# Altium footprint library connectLibPcb.PcbLib: 20 footprints (part 1 of 2)
Each footprint in its own frame and in the unit in brackets; x right, y up, seen from the top. Pads: shape width x height; smd on the part's side, far side on the other; paste and mask are expansions set on the pad; w line width, h text height; cw(c..) or ccw(c..) is an arc to the next point about the centre after c.
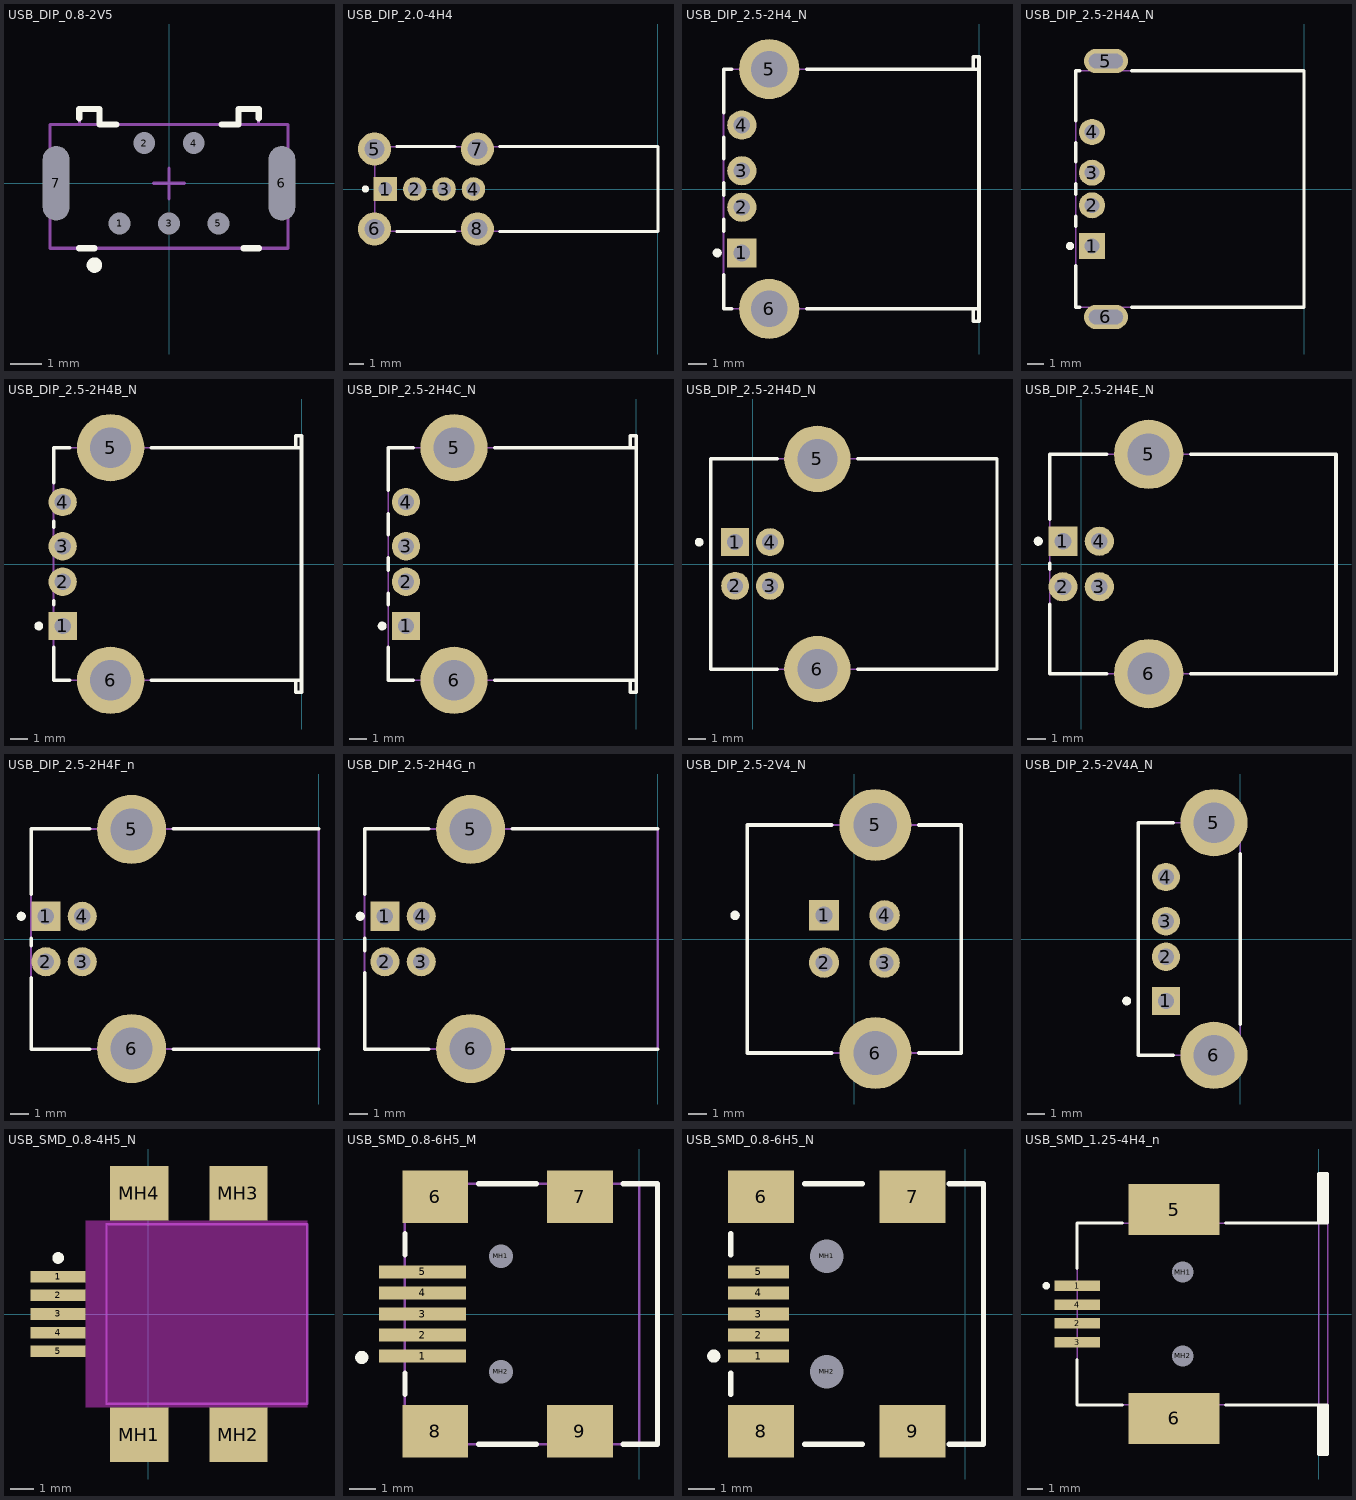
[diagram p0: the footprints below, top view; thin cyan lines are the x and y axes]

## USB_DIP_0.8-2V5 [mm] "Connector; USB Mini-B, Type 2, Thru-Hole; 5 Position; Vertical"
height 7.7
pads (7):
  round 0.4 / inner round 0.4 / far side oval 1.1x1.7 hole 0.7: 1(-1.6,-1.3) 2(-0.8,1.3) 3(0,-1.3) 4(0.8,1.3) 5(1.6,-1.3)
  oval 0.55x2.1 / inner oval 0.55x2.1 / far side oval 1.6x3.9 hole 0.85 slot 2.4 at 90 deg: 6(3.65,0) 7(-3.65,0)
Top Overlay:
  circle w0.25: c-2.41,-2.645 r0.125
  lines w0.2: -2.91,-2.1 -2.41,-2.1 ; -2.9,2.1 -2.9,2.4 -2.25,2.4 -2.25,1.9 -1.7,1.9 ; 1.7,1.9 2.25,1.9 2.25,2.4 2.9,2.4 2.9,2.1 ; 2.41,-2.1 2.91,-2.1
Mechanical 13:
  lines w0.1: -2.9,1.9 -2.9,2.4 -2.25,2.4 -2.25,1.9 ; 2.25,1.9 2.25,2.4 2.9,2.4 2.9,1.9 ; -3.85,-2.1 3.85,-2.1 3.85,1.9 -3.85,1.9 -3.85,-2.1
Mechanical 15:
  lines w0.1: -0.5,0 0.5,0 ; 0,-0.5 0,0.5
3D body: height 7.7, standoff 0, extent 2.251,1.901 2.899,2.399
3D body: height 7.7, standoff 0, extent -2.899,1.901 -2.251,2.399
3D body: height 7.7, standoff 0, extent -3.849,-2.099 3.849,1.899

## USB_DIP_2.0-4H4 [mm] "Connector; USB1.1, Type A, Thru-Hole; 4 Position; Right Angle"
height 13.83
pads (8):
  rect 1.6x1.6 hole 0.92: 1(-18.56,0)
  round 1.6 hole 0.92: 2(-16.56,0) 3(-14.56,0) 4(-12.56,0)
  round 2.25 hole 1.35: 5(-19.29,2.72) 6(-19.29,-2.72) 7(-12.29,2.72) 8(-12.29,-2.72)
Top Overlay:
  circle w0.25: c-19.91,0 r0.125
  lines w0.2: -17.78,-2.88 -13.8,-2.88 ; -17.78,2.88 -13.8,2.88 ; -10.78,-2.88 0,-2.88 0,2.88 -10.78,2.88
Mechanical 13:
  lines w0.1: -19.29,-2.88 -19.29,2.88 0,2.88 0,-2.88 -19.29,-2.88
3D body: height 13.83, standoff 0, extent -19.289,-2.879 -0.001,2.879

## USB_DIP_2.5-2H4_N [mm] "Connector; USB1.1, Series A, Reverse Type, Thru-Hole; 4 Position; Right Angle"
height 6.5
pads (6):
  rect 1.6x1.6 hole 0.92: 1(-13,-3.5)
  round 1.6 hole 0.92: 2(-13,-1) 3(-13,1) 4(-13,3.5)
  round 3.3 hole 2: 5(-11.5,6.57) 6(-11.5,-6.57)
Top Overlay:
  circle w0.25: c-14.35,-3.5 r0.125
  lines w0.2: -14,-4.7 -14,-6.565 -13.55,-6.565 ; -14,-2.3 -14,-1.67 ; -14,-0.33 -14,0.33 ; -14,1.67 -14,2.83 ; -14,4.17 -14,6.565 -13.55,6.565 ; -9.45,-6.565 0,-6.565 ; -9.45,6.565 0,6.565 ; -0.32,-6.565 -0.32,-7.25 0,-7.25 0,7.25 -0.32,7.25 -0.32,6.565
Mechanical 1:
  lines w0.1: 0,-7.25 0,7.25
  text "PCB Edge" at -0.336,-6.303 h0.25
Mechanical 13:
  lines w0.1: -14,-6.565 -0.32,-6.565 -0.32,-7.25 0,-7.25 0,7.25 -0.32,7.25 -0.32,6.565 -14,6.565 -14,-6.565
3D body: height 6.5, standoff 0, extent -13.999,-7.249 -0.001,7.249

## USB_DIP_2.5-2H4A_N [mm] "Connector; USB1.1, Series A, Reverse Type, Thru-Hole; 4 Position; Right Angle"
height 6.5
pads (6):
  rect 1.6x1.6 hole 0.92: 1(-13,-3.5)
  round 1.6 hole 0.92: 2(-13,-1) 3(-13,1) 4(-13,3.5)
  oval 2.7x1.5 hole 0.9 slot 2.1 at 0 deg: 5(-12.15,7.85) 6(-12.15,-7.85)
Top Overlay:
  circle w0.25: c-14.35,-3.5 r0.125
  lines w0.2: -14,-4.7 -14,-7.25 -13.74,-7.25 ; -14,-2.3 -14,-1.67 ; -14,-0.33 -14,0.33 ; -14,1.67 -14,2.83 ; -14,4.17 -14,7.25 -13.74,7.25 ; -10.56,-7.25 0,-7.25 0,7.25 -10.56,7.25
Mechanical 1:
  lines w0.1: 0,-7.25 0,7.25
  text "PCB Edge" at -0.324,-6.966 h0.25
Mechanical 13:
  lines w0.1: -14,-7.25 0,-7.25 0,7.25 -14,7.25 -14,-7.25
3D body: height 6.5, standoff 0, extent -14,-7.25 0,7.25

## USB_DIP_2.5-2H4B_N [mm] "Connector; USB1.1, Type A, Thru-Hole; 4 Position; Right Angle"
height 7.01
pads (6):
  rect 1.6x1.6 hole 0.92: 1(-13.49,-3.5)
  round 1.6 hole 0.92: 2(-13.49,-1) 3(-13.49,1) 4(-13.49,3.5)
  round 3.8 hole 2.3: 5(-10.78,6.57) 6(-10.78,-6.57)
Top Overlay:
  circle w0.25: c-14.84,-3.5 r0.125
  lines w0.2: -14,-4.7 -14,-6.565 -13.08,-6.565 ; -14,-2.3 -14,-2.09 ; -14,2.09 -14,2.41 ; -14,4.59 -14,6.565 -13.08,6.565 ; -8.48,-6.565 0,-6.565 ; -8.48,6.565 0,6.565 ; -0.32,-6.565 -0.32,-7.25 0,-7.25 0,-6.565 ; -0.32,6.565 -0.32,7.25 0,7.25 0,6.565 ; 0,-6.565 0,6.565
Mechanical 13:
  lines w0.1: -14,-6.565 -14,6.565 -0.32,6.565 -0.32,7.25 0,7.25 0,-7.25 -0.32,-7.25 -0.32,-6.565 -14,-6.565
3D body: height 7.01, standoff 0, extent -13.999,-7.249 -0.001,7.249

## USB_DIP_2.5-2H4C_N [mm] "Connector; USB1.1, Type A, Thru-Hole; 4 Position; Right Angle"
height 7.01
pads (6):
  rect 1.6x1.6 hole 0.92: 1(-12.99,-3.5)
  round 1.6 hole 0.92: 2(-12.99,-1) 3(-12.99,1) 4(-12.99,3.5)
  round 3.8 hole 2.3: 5(-10.28,6.57) 6(-10.28,-6.57)
Top Overlay:
  circle w0.25: c-14.34,-3.5 r0.125
  lines w0.2: -14,-4.7 -14,-6.565 -12.58,-6.565 ; -14,-2.3 -14,-1.66 ; -14,-0.34 -14,0.34 ; -14,1.66 -14,2.84 ; -14,4.16 -14,6.565 -12.58,6.565 ; -7.98,-6.565 0,-6.565 ; -7.98,6.565 0,6.565 ; -0.32,-6.565 -0.32,-7.25 0,-7.25 0,-6.565 ; -0.32,6.565 -0.32,7.25 0,7.25 0,6.565 ; 0,-6.565 0,6.565
Mechanical 13:
  lines w0.1: -14,-6.565 -0.32,-6.565 -0.32,-7.25 0,-7.25 0,7.25 -0.32,7.25 -0.32,6.565 -14,6.565 -14,-6.565
3D body: height 7.01, standoff 0, extent -13.999,-7.249 -0.001,7.249

## USB_DIP_2.5-2H4D_N [mm] "Connector; USB1.1, Type B, Thru-Hole; 4 Position; Right Angle"
height 11.1
pads (6):
  rect 1.6x1.6 hole 0.92: 1(-1,1.25)
  round 1.6 hole 0.92: 2(-1,-1.25) 3(1,-1.25) 4(1,1.25)
  round 3.8 hole 2.3: 5(3.71,6.02) 6(3.71,-6.02)
Top Overlay:
  circle w0.25: c-3.06,1.25 r0.125
  lines w0.2: 1.41,-6.02 -2.41,-6.02 -2.41,6.02 1.41,6.02 ; 6.01,-6.02 13.99,-6.02 13.99,6.02 6.01,6.02
Mechanical 13:
  lines w0.1: -2.41,-6.02 13.99,-6.02 13.99,6.02 -2.41,6.02 -2.41,-6.02
3D body: height 11.1, standoff 0, extent -2.41,-6.02 13.99,6.02

## USB_DIP_2.5-2H4E_N [mm] "Connector; USB1.1, Type B, Thru-Hole; 4 Position; Right Angle"
height 11.5
pads (6):
  rect 1.6x1.6 hole 0.92: 1(-1,1.25)
  round 1.6 hole 0.92: 2(-1,-1.25) 3(1,-1.25) 4(1,1.25)
  round 3.8 hole 2.3: 5(3.71,6.02) 6(3.71,-6.02)
Top Overlay:
  circle w0.25: c-2.35,1.25 r0.125
  lines w0.2: -1.72,-2.21 -1.72,-6.02 1.41,-6.02 ; -1.72,-0.29 -1.72,0.05 ; -1.72,2.45 -1.72,6.02 1.41,6.02 ; 6.01,-6.02 13.99,-6.02 13.99,6.02 6.01,6.02
Mechanical 13:
  lines w0.1: -1.72,-6.02 13.99,-6.02 13.99,6.02 -1.72,6.02 -1.72,-6.02
3D body: height 11.5, standoff 0, extent -1.72,-6.02 13.99,6.02

## USB_DIP_2.5-2H4F_n [mm] "Connector; USB1.1, Type B, Thru-Hole; 4 Position; Right Angle"
height 10.95
pads (6):
  rect 1.6x1.6 hole 0.92: 1(-15.01,1.25)
  round 1.6 hole 0.92: 2(-15.01,-1.25) 3(-13.01,-1.25) 4(-13.01,1.25)
  round 3.8 hole 2.3: 5(-10.3,6.02) 6(-10.3,-6.02)
Top Overlay:
  circle w0.25: c-16.36,1.25 r0.125
  lines w0.2: -15.82,-2.14 -15.82,-6.05 -12.6,-6.05 ; -15.82,-0.36 -15.82,0.05 ; -15.82,2.45 -15.82,6.05 -12.6,6.05 ; -8,-6.05 -0.02,-6.05 ; -8,6.05 -0.02,6.05
Mechanical 1:
  lines w0.1: 0,-6.05 0,6.05
  text "PCB Edge" at -0.325,-5.651 h0.25
Mechanical 13:
  lines w0.1: -15.82,-6.05 -15.82,6.05 -0.02,6.05 -0.02,-6.05 -15.82,-6.05
3D body: height 10.95, standoff 0, extent -15.82,-6.05 -0.02,6.05

## USB_DIP_2.5-2H4G_n [mm] "Connector; USB1.1, Type B, Thru-Hole; 4 Position; Right Angle"
height 10.95
pads (6):
  rect 1.6x1.6 hole 0.92: 1(-15.01,1.25)
  round 1.6 hole 0.92: 2(-15.01,-1.25) 3(-13.01,-1.25) 4(-13.01,1.25)
  round 3.8 hole 2.3: 5(-10.3,6.02) 6(-10.3,-6.02)
Top Overlay:
  circle w0.25: c-16.36,1.25 r0.125
  lines w0.2: -16.12,-1.85 -16.12,-6.05 -12.6,-6.05 ; -16.12,-0.65 -16.12,0.05 ; -16.12,2.45 -16.12,6.05 -12.6,6.05 ; -8,-6.05 -0.02,-6.05 ; -8,6.05 -0.02,6.05
Mechanical 1:
  lines w0.1: 0,-6.05 0,6.05
  text "PCB Edge" at -0.325,-5.651 h0.25
Mechanical 13:
  lines w0.1: -16.12,-6.05 -16.12,6.05 -0.02,6.05 -0.02,-6.05 -16.12,-6.05
3D body: height 10.95, standoff 0, extent -16.12,-6.05 -0.02,6.05

## USB_DIP_2.5-2V4_N [mm] "Connector; USB1.1, Type B, Thru-Hole; 4 Position; Vertical"
height 16
pads (6):
  rect 1.6x1.6 hole 0.92: 1(-1.6,1.25)
  round 1.6 hole 0.92: 2(-1.6,-1.25) 3(1.6,-1.25) 4(1.6,1.25)
  round 3.8 hole 2.3: 5(1.11,6.02) 6(1.11,-6.02)
Top Overlay:
  circle w0.25: c-6.3,1.25 r0.125
  lines w0.2: -1.19,-6.02 -5.65,-6.02 -5.65,6.02 -1.19,6.02 ; 3.41,-6.02 5.65,-6.02 5.65,6.02 3.41,6.02
Mechanical 13:
  lines w0.1: -5.65,-6.02 -5.65,6.02 5.65,6.02 5.65,-6.02 -5.65,-6.02
3D body: height 16, standoff 0, extent -5.65,-6.02 5.65,6.02

## USB_DIP_2.5-2V4A_N [mm] "Connector; USB1.1, Type A, Thru-Hole; 4 Position; Vertical"
height 15
pads (6):
  rect 1.6x1.6 hole 0.92: 1(-4.19,-3.5)
  round 1.6 hole 0.92: 2(-4.19,-1) 3(-4.19,1) 4(-4.19,3.5)
  round 3.8 hole 2.3: 5(-1.48,6.57) 6(-1.48,-6.57)
Top Overlay:
  circle w0.25: c-6.41,-3.5 r0.125
  lines w0.2: -3.78,-6.57 -5.76,-6.57 -5.76,6.57 -3.78,6.57 ; 0,-4.81 0,4.81
Mechanical 13:
  lines w0.1: -5.76,-6.57 0,-6.57 0,6.57 -5.76,6.57 -5.76,-6.57
3D body: height 15, standoff 0, extent -5.76,-6.57 0,6.57

## USB_SMD_0.8-4H5_N [mm] "Connector; USB Mini-B, Sinking Type, SM; 5 Position; Right Angle"
height 0.65
pads (9):
  rect 2.35x0.5 smd: 1(-3.862,1.6) 2(-3.862,0.8) 3(-3.862,0) 4(-3.862,-0.8) 5(-3.862,-1.6)
  rect 2.5x2.35 smd: MH1(-0.387,-5.175) MH2(3.863,-5.175) MH3(3.863,5.175) MH4(-0.387,5.175)
Top Overlay:
  circle w0.25: c-3.862,2.4 r0.125
Keep-Out Layer:
  rectangle: -2.687,-4 6.813,4
Mechanical 13:
  lines w0.1: -1.788,-3.85 -1.788,3.85 6.813,3.85 6.813,-3.85 -1.788,-3.85
3D body: height 0.65, standoff -3.25, extent -1.798,-3.838 6.801,3.861

## USB_SMD_0.8-6H5_M [mm] "Connector; USB2.0, Type B, SM; 5 Position; Right Angle"
height 3.9
pads (11):
  rect 3.3x0.5 smd: 1(-8.23,-1.6) 2(-8.23,-0.8) 3(-8.23,0) 4(-8.23,0.8) 5(-8.23,1.6)
  rect 2.5x2 smd: 6(-7.75,4.45) 7(-2.25,4.45) 8(-7.75,-4.45) 9(-2.25,-4.45)
  round 0.6 hole 0.9 unplated: MH1(-5.25,2.2) MH2(-5.25,-2.2)
Top Overlay:
  circle w0.25: c-10.539,-1.651 r0.125
  lines w0.2: -8.9,-3.05 -8.9,-2.25 ; -8.9,2.25 -8.9,3.05 ; -6.1,-4.95 -3.9,-4.95 ; -6.1,4.95 -3.9,4.95 ; -0.6,-4.95 0.7,-4.95 0.7,4.95 -0.6,4.95
Mechanical 1:
  lines w0.1: 0,-4.95 0,4.95
  text "PCB Edge" at 0.432,-4.036 h0.25
Mechanical 13:
  lines w0.1: -8.9,-4.95 0.7,-4.95 0.7,4.95 -8.9,4.95 -8.9,-4.95
3D body: height 3.9, standoff 0, extent -8.9,-4.95 0.7,4.95

## USB_SMD_0.8-6H5_N [mm]
pads (11):
  rect 2.3x0.5 smd: 1(-7.85,-1.6) 2(-7.85,-0.8) 3(-7.85,0) 4(-7.85,0.8) 5(-7.85,1.6)
  rect 2.5x2 smd: 6(-7.75,4.45) 7(-1.996,4.45) 8(-7.75,-4.45) 9(-1.996,-4.45)
  round 0.6 hole 1.27 unplated: MH1(-5.25,2.2) MH2(-5.25,-2.2)
Top Overlay:
  circle w0.25: c-9.55,-1.6 r0.125
  lines w0.2: -8.9,-3.05 -8.9,-2.25 ; -8.9,2.25 -8.9,3.05 ; -6.1,-4.95 -3.9,-4.95 ; -6.1,4.95 -3.9,4.95 ; -0.6,-4.95 0.7,-4.95 0.7,4.95 -0.6,4.95

## USB_SMD_1.25-4H4_n [mm] "Connector; USB1.1, Type B, SM; 4 Position; Right Angle"
height 11
pads (8):
  rect 3x0.7 smd: 1(-16,1.875) 2(-16,-0.625) 3(-16,-1.875) 4(-16,0.625)
  rect 6.04x3.4 smd: 5(-9.58,6.92) 6(-9.58,-6.92)
  round 1.1 hole 1.4 unplated: MH1(-9,2.775) MH2(-9,-2.775)
Top Overlay:
  circle w0.25: c-18.05,1.875 r0.125
  rectangle: 0,-9.32 0.6,-6.02
  rectangle: 0,6.02 0.6,9.32
  lines w0.2: -16,-3 -16,-6.02 -13,-6.02 ; -16,3 -16,6.02 -13,6.02 ; -6.16,-6.02 0,-6.02 ; -6.16,6.02 0,6.02 ; 0,-6.02 0.6,-6.02 0.6,-9.32 0,-9.32 0,-6.02 ; 0,6.02 0.6,6.02 0.6,9.32 0,9.32 0,6.02
Mechanical 1:
  lines w0.1: 0,-6.02 0,6.02
  text "PCB Edge" at -0.219,-5.75 h0.25
Mechanical 13:
  lines w0.1: 0,-6.02 0,-9.32 0.6,-9.32 0.6,9.32 0,9.32 0,6.02 ; 0.6,-6.02 -16,-6.02 -16,6.02 0.6,6.02
3D body: height 11, standoff 0, extent 0.001,6.021 0.599,9.319
3D body: height 11, standoff 0, extent 0.001,-9.319 0.599,-6.021
3D body: height 11, standoff 0, extent -15.999,-6.019 0.599,6.019